# Altium schematic symbol library L8050QLT1G.SchLib: 1 symbol
Pins are listed as number, name and electrical type; pins without a type are passive.

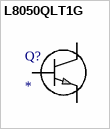
[diagram p0: symbol L8050QLT1G]

## L8050QLT1G
designator Q?
No Description Available; Mfr_Name: Leshan Radio Co.
footprint SOT-23_LRC
pins: 1, 2, 3